# EAGLE library part 44256 (library memory-jlb)
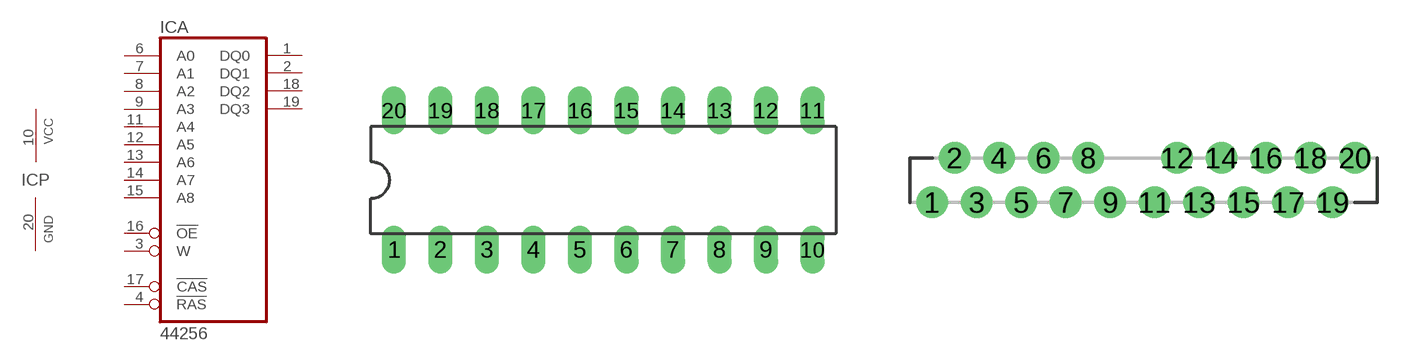
[diagram p0: symbol with the pads of DIL20; footprints DIL20, ZIP20]

Designator prefix IC; gates A=44256 P=PWRN

## 44256  [DIL20]
1  A:DQ0
2  A:DQ1
3  A:W  in
4  A:!RAS  in
6  A:A0  in
7  A:A1  in
8  A:A2  in
9  A:A3  in
10  P:VCC  pwr
11  A:A4  in
12  A:A5  in
13  A:A6  in
14  A:A7  in
15  A:A8  in
16  A:!OE  in
17  A:!CAS  in
18  A:DQ2
19  A:DQ3
20  P:GND  pwr

## 44256L  [ZIP20]
1  A:!OE  in
2  A:!CAS  in
3  A:DQ2
4  A:DQ3
5  P:GND  pwr
6  A:DQ0
7  A:DQ1
8  A:W  in
9  A:!RAS  in
11  A:A0  in
12  A:A1  in
13  A:A2  in
14  A:A3  in
15  P:VCC  pwr
16  A:A4  in
17  A:A5  in
18  A:A6  in
19  A:A7  in
20  A:A8  in

## Footprint DIL20 (pad centres in mm)
Dual In Line Package
drill 0.813 long: 1 -11.43,-3.81; 2 -8.89,-3.81; 3 -6.35,-3.81; 4 -3.81,-3.81; 5 -1.27,-3.81; 6 1.27,-3.81; 7 3.81,-3.81; 8 6.35,-3.81; 9 8.89,-3.81; 10 11.43,-3.81; 11 11.43,3.81; 12 8.89,3.81; 13 6.35,3.81; 14 3.81,3.81; 15 1.27,3.81; 16 -1.27,3.81; 17 -3.81,3.81; 18 -6.35,3.81; 19 -8.89,3.81; 20 -11.43,3.81

## Footprint ZIP20 (pad centres in mm)
ZIP 21 / SLA706xMLF2102 Source: 97060.pdf
drill 0.9 pad 1.8: 1 -11.43,-1.27; 2 -10.16,1.27; 3 -8.89,-1.27; 4 -7.62,1.27; 5 -6.35,-1.27; 6 -5.08,1.27; 7 -3.81,-1.27; 8 -2.54,1.27; 9 -1.27,-1.27; 11 1.27,-1.27; 12 2.54,1.27; 13 3.81,-1.27; 14 5.08,1.27; 15 6.35,-1.27; 16 7.62,1.27; 17 8.89,-1.27; 18 10.16,1.27; 19 11.43,-1.27; 20 12.7,1.27